# Altium footprint library SOL-28.PcbLib: 1 footprints
Each footprint in its own frame and in the unit in brackets; x right, y up, seen from the top. Pads: shape width x height; smd on the part's side, far side on the other; paste and mask are expansions set on the pad; w line width, h text height; cw(c..) or ccw(c..) is an arc to the next point about the centre after c.
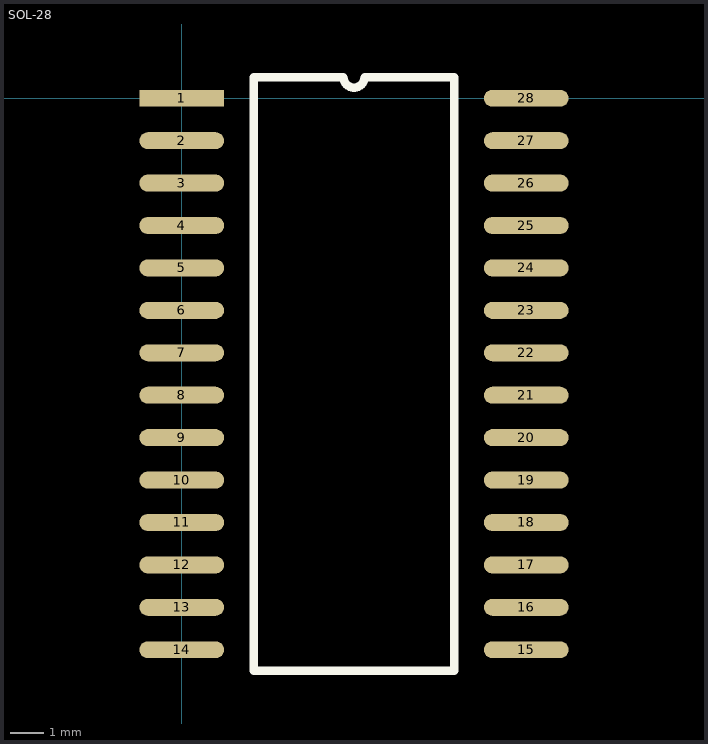
[diagram p0: the footprint, top view; thin cyan lines are the x and y axes]

## SOL-28 [mil]
height 110
pads (28):
  rect 100x20 smd: 1(0,0)
  oval 100x20 smd: 2(0,-50) 3(0,-100) 4(0,-150) 5(0,-200) 6(0,-250) 7(0,-300) 8(0,-350) 9(0,-400) 10(0,-450) 11(0,-500) 12(0,-550) 13(0,-600) 14(0,-650) 15(406,-650) 16(406,-600) 17(406,-550) 18(406,-500) 19(406,-450) 20(406,-400) 21(406,-350) 22(406,-300) 23(406,-250) 24(406,-200) 25(406,-150) 26(406,-100) 27(406,-50) 28(406,0)
TopOverlay:
  lines w10: 85,-675 85,25 190.5,25 ccw(c203,25) 215.5,25 321,25 321,-675 85,-675